# Altium integrated library Analog Devices Data Converters Digital-to-Analog Converters.IntLib: 2231 symbols (part 151 of 181)
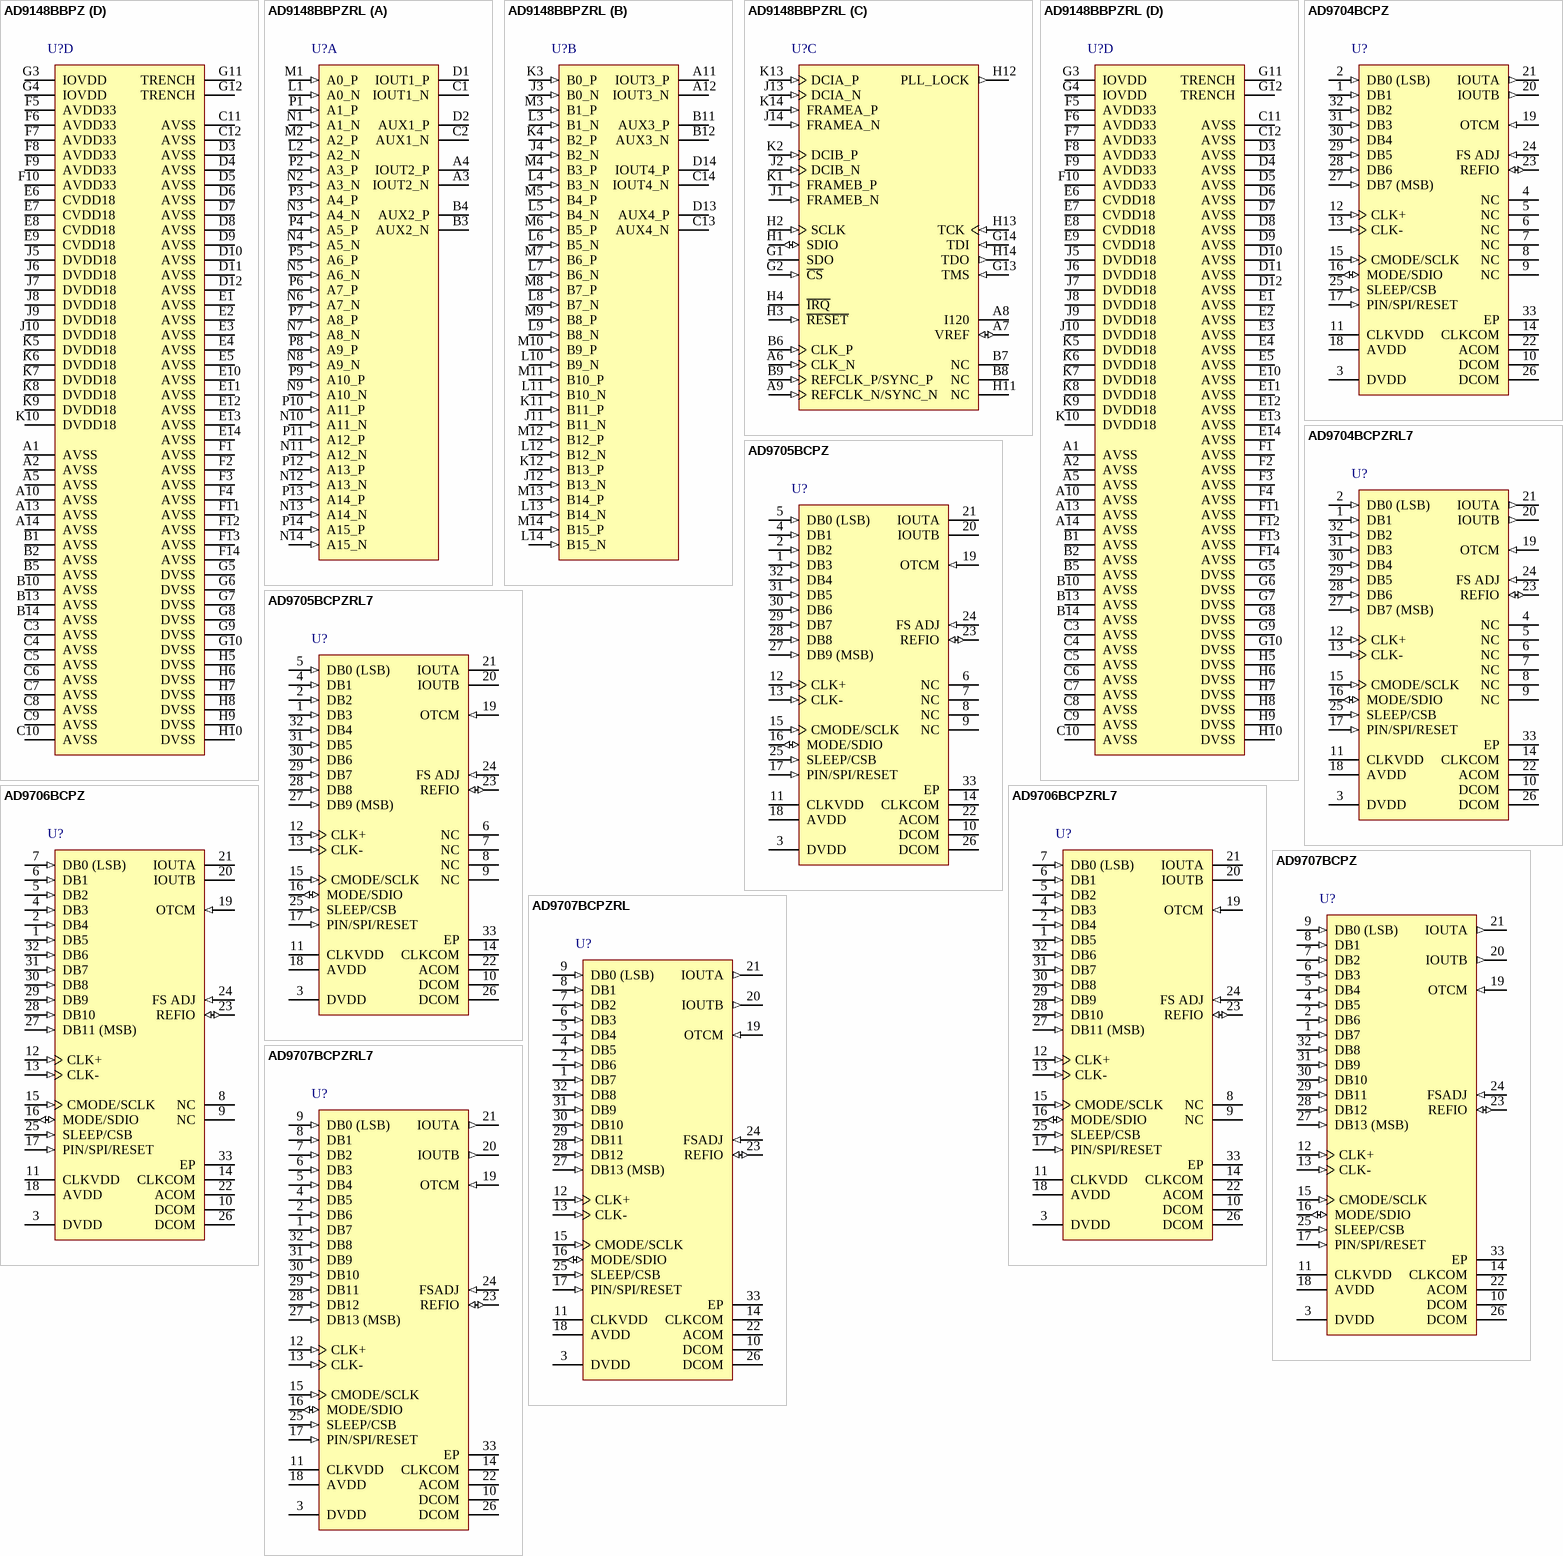
[diagram p264: symbols AD9148BBPZ to AD9707BCPZRL7]

## AD9148BBPZRL
designator U?
Quad 16-Bit 1 Gsps TxDAC+ Digital-to-Analog Converter, -40 to +85 degC, BP-196-1, Pb-Free, Reel; Generic Part Number: AD9148; Manufacturer: Analog Devices; PartNumber: AD9148BBPZRL; # DAC Outputs: 4; Max V+: 3.47V; Op Pwr Diss: 3W; Resolution (Bits): 16; Single Supply: No; DatasheetVersion: Rev.B; PackageVersion: 02-07-2012A; PackageReference: BP-196-1; PackageDescription: 196-Ball Ball Grid Array, Thermally Enhanced [BGA_ED]; Supplier 1: Digi-Key; Supplier Part Number 1: AD9148BBPZRL-ND; Supplier 2: Mouser; Supplier Part Number 2: 584-AD9148BBPZR; Packing: Reel; RoHS: Y; Mounting Technology: Surface Mount; Code_JEDEC: MO-192; ComponentLink1Description: Manufacturer URL; ComponentLink1URL: http://www.analog.com/en/index.html; ComponentLink2Description: Datasheet; ComponentLink2URL: http://www.analog.com/static/imported-files/data_sheets/AD9148.pdf; ComponentLink3Description: Product URL; ComponentLink3URL: http://www.analog.com/en/digital-to-analog-converters/da-converters/ad9148/products/product.html
footprint BP-196-1 (BGA, 196-Leads, Body 12x12mm, Pitch 0.8mm)
part A pins: A3 IOUT2_N (hiz) "DAC 2 Complementary Output Current.", A4 IOUT2_P (hiz) "DAC 2 Positive Output Current.", B3 AUX2_N (hiz) "Auxiliary DAC 2 Complementary Output Current.", B4 AUX2_P (hiz) "Auxiliary DAC 2 Positive Output Current.", C1 IOUT1_N (hiz) "DAC 1 Complementary Output Current.", C2 AUX1_N (hiz) "Auxiliary DAC 1 Complementary Output Current.", D1 IOUT1_P (hiz) "DAC 1 Positive Output Current.", D2 AUX1_P (hiz) "Auxiliary DAC 1 Positive Output Current.", L1 A0_N (in) "LVDS Data Input Pair, Port A (LSB).", L2 A2_N (in) "LVDS Data Input Pair, Port A.", M1 A0_P (in) "LVDS Data Input Pair, Port A (LSB).", M2 A2_P (in) "LVDS Data Input Pair, Port A.", N1 A1_N (in) "LVDS Data Input Pair, Port A.", N2 A3_N (in) "LVDS Data Input Pair, Port A.", N3 A4_N (in) "LVDS Data Input Pair, Port A.", N4 A5_N (in) "LVDS Data Input Pair, Port A.", N5 A6_N (in) "LVDS Data Input Pair, Port A.", N6 A7_N (in) "LVDS Data Input Pair, Port A.", N7 A8_N (in) "LVDS Data Input Pair, Port A.", N8 A9_N (in) "LVDS Data Input Pair, Port A.", N9 A10_N (in) "LVDS Data Input Pair, Port A.", N10 A11_N (in) "LVDS Data Input Pair, Port A.", N11 A12_N (in) "LVDS Data Input Pair, Port A.", N12 A13_N (in) "LVDS Data Input Pair, Port A.", N13 A14_N (in) "LVDS Data Input Pair, Port A.", N14 A15_N (in) "LVDS Data Input Pair, Port A (MSB).", P1 A1_P (in) "LVDS Data Input Pair, Port A.", P2 A3_P (in) "LVDS Data Input Pair, Port A.", P3 A4_P (in) "LVDS Data Input Pair, Port A.", P4 A5_P (in) "LVDS Data Input Pair, Port A.", P5 A6_P (in) "LVDS Data Input Pair, Port A.", P6 A7_P (in) "LVDS Data Input Pair, Port A.", P7 A8_P (in) "LVDS Data Input Pair, Port A.", P8 A9_P (in) "LVDS Data Input Pair, Port A.", P9 A10_P (in) "LVDS Data Input Pair, Port A.", P10 A11_P (in) "LVDS Data Input Pair, Port A.", P11 A12_P (in) "LVDS Data Input Pair, Port A.", P12 A13_P (in) "LVDS Data Input Pair, Port A.", P13 A14_P (in) "LVDS Data Input Pair, Port A.", P14 A15_P (in) "LVDS Data Input Pair, Port A (MSB)."
part B pins: A11 IOUT3_P (hiz) "DAC 3 Positive Output Current.", A12 IOUT3_N (hiz) "DAC 3 Complementary Output Current.", B11 AUX3_P (hiz) "Auxiliary DAC 3 Positive Output Current.", B12 AUX3_N (hiz) "Auxiliary DAC 3 Complementary Output Current.", C13 AUX4_N (hiz) "Auxiliary DAC 4 Complementary Output Current.", C14 IOUT4_N (hiz) "DAC 4 Complementary Output Current.", D13 AUX4_P (hiz) "Auxiliary DAC 4 Positive Output Current.", D14 IOUT4_P (hiz) "DAC 4 Positive Output Current.", J3 B0_N (in) "LVDS Data Input Pair, Port B (LSB).", J4 B2_N (in) "LVDS Data Input Pair, Port B.", J11 B11_N (in) "LVDS Data Input Pair, Port B.", J12 B13_N (in) "LVDS Data Input Pair, Port B.", K3 B0_P (in) "LVDS Data Input Pair, Port B (LSB).", K4 B2_P (in) "LVDS Data Input Pair, Port B.", K11 B11_P (in) "LVDS Data Input Pair, Port B.", K12 B13_P (in) "LVDS Data Input Pair, Port B.", L3 B1_N (in) "LVDS Data Input Pair, Port B.", L4 B3_N (in) "LVDS Data Input Pair, Port B.", L5 B4_N (in) "LVDS Data Input Pair, Port B.", L6 B5_N (in) "LVDS Data Input Pair, Port B.", L7 B6_N (in) "LVDS Data Input Pair, Port B.", L8 B7_N (in) "LVDS Data Input Pair, Port B.", L9 B8_N (in) "LVDS Data Input Pair, Port B.", L10 B9_N (in) "LVDS Data Input Pair, Port B.", L11 B10_N (in) "LVDS Data Input Pair, Port B.", L12 B12_N (in) "LVDS Data Input Pair, Port B.", L13 B14_N (in) "LVDS Data Input Pair, Port B.", L14 B15_N (in) "LVDS Data Input Pair, Port B (MSB).", M3 B1_P (in) "LVDS Data Input Pair, Port B.", M4 B3_P (in) "LVDS Data Input Pair, Port B.", M5 B4_P (in) "LVDS Data Input Pair, Port B.", M6 B5_P (in) "LVDS Data Input Pair, Port B.", M7 B6_P (in) "LVDS Data Input Pair, Port B.", M8 B7_P (in) "LVDS Data Input Pair, Port B.", M9 B8_P (in) "LVDS Data Input Pair, Port B.", M10 B9_P (in) "LVDS Data Input Pair, Port B.", M11 B10_P (in) "LVDS Data Input Pair, Port B.", M12 B12_P (in) "LVDS Data Input Pair, Port B.", M13 B14_P (in) "LVDS Data Input Pair, Port B.", M14 B15_P (in) "LVDS Data Input Pair, Port B (MSB)."
part C pins: A6 CLK_N (in) "Negative DAC Clock Input (CLK).", A7 VREF (io) "Band Gap Voltage Reference I/O. Decouple to analog ground via a 0.1 uF capacitor. Output impedance is approximately 5 kohm.", A8 I120 "Tie to analog ground via a 10 kohm resistor to generate a 120 uA reference current.", A9 REFCLK_N/SYNC_N (in) "PLL Reference Clock Input (REFCLK_N). This pin has a secondary function as a synchronization input (SYNC_N).", B6 CLK_P (in) "Positive DAC Clock Input (CLK).", B7 NC "No Connect. Do not connect to this pin.", B8 NC "No Connect. Do not connect to this pin.", B9 REFCLK_P/SYNC_P (in) "PLL Reference Clock Input (REFCLK_P). This pin has a secondary function as a synchronization input (SYNC_P).", G1 SDO (hiz) "Serial Data Output for SPI.", G2 ~{CS} (in) "Active Low Chip Select for SPI.", G13 TMS (in) "Reserved for Future Use. Connect to DVSS.", G14 TDI (in) "Reserved for Future Use. Connect to DVSS.", H1 SDIO (io) "Serial Data Input/Output for SPI.", H2 SCLK (in) "Qualifying Clock Input for SPI.", H3 ~{RESET} (in) "An active low LVCMOS input resets the device. Pull up to IOVDD.", H4 ~{IRQ} (oc) "Active Low Open-Drain Interrupt Request Output. Pull up to IOVDD with a 10 kohm resistor.", H11 NC "No Connect. Do not connect to this pin.", H12 PLL_LOCK (out) "Active High LVCMOS Output. It indicates the lock status of the PLL circuitry.", H13 TCK (in) "Reserved for Future Use. Connect to DVSS.", H14 TDO (out) "Reserved for Future Use. Leave unconnected.", J1 FRAMEB_N (in) "LVDS Frame Input for Port B. Tie to LVDS logic low if not used. Recommended external bias circuit is shown in Figure 49.", J2 DCIB_N (in) "LVDS Data Clock Input Pair for Port B.", J13 DCIA_N (in) "LVDS Data Clock Input Pair for Port A.", J14 FRAMEA_N (in) "LVDS Frame Input for Port A. Tie to LVDS logic low if not used. Recommended external bias circuit is shown in Figure 49.", K1 FRAMEB_P (in) "LVDS Frame Input for Port B. Tie to LVDS logic low if not used. Recommended external bias circuit is shown in Figure 49.", K2 DCIB_P (in) "LVDS Data Clock Input Pair for Port B.", K13 DCIA_P (in) "LVDS Data Clock Input Pair for Port A.", K14 FRAMEA_P (in) "LVDS Frame Input for Port A. Tie to LVDS logic low if not used. Recommended external bias circuit is shown in Figure 49."
part D pins: A1 AVSS (power) "Analog Supply Ground.", A2 AVSS (power) "Analog Supply Ground.", A5 AVSS (power) "Analog Supply Ground.", A10 AVSS (power) "Analog Supply Ground.", A13 AVSS (power) "Analog Supply Ground.", A14 AVSS (power) "Analog Supply Ground.", B1 AVSS (power) "Analog Supply Ground.", B2 AVSS (power) "Analog Supply Ground.", B5 AVSS (power) "Analog Supply Ground.", B10 AVSS (power) "Analog Supply Ground.", B13 AVSS (power) "Analog Supply Ground.", B14 AVSS (power) "Analog Supply Ground.", C3 AVSS (power) "Analog Supply Ground.", C4 AVSS (power) "Analog Supply Ground.", C5 AVSS (power) "Analog Supply Ground.", C6 AVSS (power) "Analog Supply Ground.", C7 AVSS (power) "Analog Supply Ground.", C8 AVSS (power) "Analog Supply Ground.", C9 AVSS (power) "Analog Supply Ground.", C10 AVSS (power) "Analog Supply Ground.", C11 AVSS (power) "Analog Supply Ground.", C12 AVSS (power) "Analog Supply Ground.", D3 AVSS (power) "Analog Supply Ground.", D4 AVSS (power) "Analog Supply Ground.", D5 AVSS (power) "Analog Supply Ground.", D6 AVSS (power) "Analog Supply Ground.", D7 AVSS (power) "Analog Supply Ground.", D8 AVSS (power) "Analog Supply Ground.", D9 AVSS (power) "Analog Supply Ground.", D10 AVSS (power) "Analog Supply Ground.", D11 AVSS (power) "Analog Supply Ground.", D12 AVSS (power) "Analog Supply Ground.", E1 AVSS (power) "Analog Supply Ground.", E2 AVSS (power) "Analog Supply Ground.", E3 AVSS (power) "Analog Supply Ground.", E4 AVSS (power) "Analog Supply Ground.", E5 AVSS (power) "Analog Supply Ground.", E6 CVDD18 (power) "1.8 V Clock Supply.", E7 CVDD18 (power) "1.8 V Clock Supply.", E8 CVDD18 (power) "1.8 V Clock Supply.", E9 CVDD18 (power) "1.8 V Clock Supply.", E10 AVSS (power) "Analog Supply Ground.", E11 AVSS (power) "Analog Supply Ground.", E12 AVSS (power) "Analog Supply Ground.", E13 AVSS (power) "Analog Supply Ground.", E14 AVSS (power) "Analog Supply Ground.", F1 AVSS (power) "Analog Supply Ground.", F2 AVSS (power) "Analog Supply Ground.", F3 AVSS (power) "Analog Supply Ground.", F4 AVSS (power) "Analog Supply Ground.", F5 AVDD33 (power) "3.3 V Analog Supply.", F6 AVDD33 (power) "3.3 V Analog Supply.", F7 AVDD33 (power) "3.3 V Analog Supply.", F8 AVDD33 (power) "3.3 V Analog Supply.", F9 AVDD33 (power) "3.3 V Analog Supply.", F10 AVDD33 (power) "3.3 V Analog Supply.", F11 AVSS (power) "Analog Supply Ground.", F12 AVSS (power) "Analog Supply Ground.", F13 AVSS (power) "Analog Supply Ground.", F14 AVSS (power) "Analog Supply Ground.", G3 IOVDD (power) "Supply for Serial Ports (SPI and TAP), R\E\S\E\T\ and I\R\Q\. 1.8 V to 3.3 V can be supplied to these pins.", G4 IOVDD (power) "Supply for Serial Ports (SPI and TAP), R\E\S\E\T\ and I\R\Q\. 1.8 V to 3.3 V can be supplied to these pins.", G5 DVSS (power) "Digital Supply Ground.", G6 DVSS (power) "Digital Supply Ground.", G7 DVSS (power) "Digital Supply Ground.", G8 DVSS (power) "Digital Supply Ground.", G9 DVSS (power) "Digital Supply Ground.", G10 DVSS (power) "Digital Supply Ground.", G11 TRENCH (power) "Connect this pin to VSS.", G12 TRENCH (power) "Connect this pin to VSS.", H5 DVSS (power) "Digital Supply Ground.", H6 DVSS (power) "Digital Supply Ground.", H7 DVSS (power) "Digital Supply Ground.", H8 DVSS (power) "Digital Supply Ground.", H9 DVSS (power) "Digital Supply Ground.", H10 DVSS (power) "Digital Supply Ground.", J5 DVDD18 (power) "1.8 V Digital Supply.", J6 DVDD18 (power) "1.8 V Digital Supply.", J7 DVDD18 (power) "1.8 V Digital Supply.", J8 DVDD18 (power) "1.8 V Digital Supply.", J9 DVDD18 (power) "1.8 V Digital Supply.", J10 DVDD18 (power) "1.8 V Digital Supply.", K5 DVDD18 (power) "1.8 V Digital Supply.", K6 DVDD18 (power) "1.8 V Digital Supply.", K7 DVDD18 (power) "1.8 V Digital Supply.", K8 DVDD18 (power) "1.8 V Digital Supply.", K9 DVDD18 (power) "1.8 V Digital Supply.", K10 DVDD18 (power) "1.8 V Digital Supply."

## AD9704BCPZ
designator U?
Single 8-Bit TxDAC, -40 to +85 degC, CP-32-2, Pb-Free, Tray; Generic Part Number: AD9704; Manufacturer: Analog Devices; PartNumber: AD9704BCPZ; # DAC Outputs: 1; Max V+: 3.6V; Op Pwr Diss: 57mW; Resolution (Bits): 8; Settling Time: 11ns; Single Supply: Yes; DatasheetVersion: Rev.B; PackageVersion: Jan-2005; PackageReference: CP-32-2; PackageDescription: 32-Lead Lead Frame Chip Scale Package [LFCSP_VQ] 5 x 5 mm Body, Very Thin Quad; Supplier 1: Digi-Key; Supplier Part Number 1: AD9704BCPZ-ND; Supplier 2: Farnell; Supplier Part Number 2: 1306147; Supplier 3: Newark; Supplier Part Number 3: 28M4190; Supplier 4: Mouser; Supplier Part Number 4: 584-AD9704BCPZ; Packing: Tray; RoHS: Y; Mounting Technology: Surface Mount; Code_JEDEC: MO-220-VHHD-2; ComponentLink1Description: Manufacturer URL; ComponentLink1URL: http://www.analog.com/en/index.html; ComponentLink2Description: Datasheet; ComponentLink2URL: http://www.analog.com/static/imported-files/data_sheets/AD9704_9705_9706_9707.pdf; ComponentLink3Description: Package Specification; ComponentLink3URL: http://www.analog.com/static/imported-files/packages/414143737956480539664569CP_32_2.pdf; ComponentLink4Description: Product URL; ComponentLink4URL: http://www.analog.com/en/digital-to-analog-converters/da-converters/ad9704/products/product.html
footprint CP-32-2_N (QFN, 32-Leads, Body 5x5mm, Pitch 0.5mm, Thermal Pad 3.1x3.1mm, IPC Medium Density)
footprint CP-32-2_L (QFN, 32-Leads, Body 5x5mm, Pitch 0.5mm, Thermal Pad 3.1x3.1mm, IPC High Density)
footprint CP-32-2_M (QFN, 32-Leads, Body 5x5mm, Pitch 0.5mm, Thermal Pad 3.1x3.1mm, IPC Low Density)
pins: 1 DB1 (in) "Data Bit 1.", 2 DB0 (LSB) (in) "Least Significant Data Bit (LSB).", 3 DVDD (power) "Digital Supply Voltage (1.7 V to 3.6 V).", 4 NC "No Connect.", 5 NC "No Connect.", 6 NC "No Connect.", 7 NC "No Connect.", 8 NC "No Connect.", 9 NC "No Connect.", 10 DCOM (power) "Digital Common.", 11 CLKVDD (power) "Clock Supply Voltage (1.7 V to 3.6 V).", 12 CLK+ (in) "Positive Differential Clock Input.", 13 CLK- (in) "Negative Differential Clock Input.", 14 CLKCOM (power) "Clock Common.", 15 CMODE/SCLK (in) "In pin mode, this pin selects the clock input type. Connect to CLKCOM for single-ended clock receiver (drive CLK+ and float CLK-). Connect to CLKVDD for differential receiver. In SPI mode, this pin is the serial data clock (See Datasheet)", 16 MODE/SDIO (io) "In pin mode, this pin selects the input data format. Connect to DCOM for straight binary, and DVDD for twos complement. In SPI mode, this pin acts as SPI data input/output.", 17 PIN/SPI/RESET (in) "Selects SPI Mode or Pin Mode Operation. Active high for pin mode operation and active low for SPI mode operation. Pulse high to reset SPI registers to default values.", 18 AVDD (power) "Analog Supply Voltage (1.7 V to 3.6 V).", 19 OTCM (in) "Adjustable Output Common Mode. Refer to the Theory of Operation section for details.", 20 IOUTB (out) "Complementary DAC Current Output. Full-scale current is sourced when all data bits are 0s.", 21 IOUTA (out) "DAC Current Output. Full-scale current is sourced when all data bits are 1s.", 22 ACOM (power) "Analog Common.", 23 REFIO (io) "Reference Input/Output. Serves as reference input when internal reference disabled. Serves as 1.0 V reference output when internal reference is activated. Requires a 0.1 uF capacitor to ACOM when internal reference is (See Datasheet)", 24 FS ADJ (in) "Full-Scale Current Output Adjust.", 25 SLEEP/CSB (in) "In pin mode, active high powers down chip. In SPI mode, this pin is the serial port chip select (active low).", 26 DCOM (power) "Digital Common.", 27 DB7 (MSB) (in) "Most Significant Data Bit (MSB).", 28 DB6 (in) "Data Bit 6.", 29 DB5 (in) "Data Bit 5.", 30 DB4 (in) "Data Bit 4.", 31 DB3 (in) "Data Bit 3.", 32 DB2 (in) "Data Bit 2.", 33 EP (power) "It is recommended that the exposed pad be thermally connected to a copper ground plane for enhanced electrical and thermal performance."

## AD9704BCPZRL7
designator U?
Single 8-Bit TxDAC, -40 to +85 degC, CP-32-2, Pb-Free, Reel; Generic Part Number: AD9704; Manufacturer: Analog Devices; PartNumber: AD9704BCPZRL7; # DAC Outputs: 1; Max V+: 3.6V; Op Pwr Diss: 57mW; Resolution (Bits): 8; Settling Time: 11ns; Single Supply: Yes; DatasheetVersion: Rev.B; PackageVersion: Jan-2005; PackageReference: CP-32-2; PackageDescription: 32-Lead Lead Frame Chip Scale Package [LFCSP_VQ] 5 x 5 mm Body, Very Thin Quad; Supplier 1: Digi-Key; Supplier Part Number 1: AD9704BCPZRL7-ND; Supplier 2: Mouser; Supplier Part Number 2: 584-AD9704BCPZR7; Packing: Reel; RoHS: Y; Mounting Technology: Surface Mount; Code_JEDEC: MO-220-VHHD-2; ComponentLink1Description: Manufacturer URL; ComponentLink1URL: http://www.analog.com/en/index.html; ComponentLink2Description: Datasheet; ComponentLink2URL: http://www.analog.com/static/imported-files/data_sheets/AD9704_9705_9706_9707.pdf; ComponentLink3Description: Package Specification; ComponentLink3URL: http://www.analog.com/static/imported-files/packages/414143737956480539664569CP_32_2.pdf; ComponentLink4Description: Product URL; ComponentLink4URL: http://www.analog.com/en/digital-to-analog-converters/da-converters/ad9704/products/product.html
footprint CP-32-2_N (QFN, 32-Leads, Body 5x5mm, Pitch 0.5mm, Thermal Pad 3.1x3.1mm, IPC Medium Density)
footprint CP-32-2_L (QFN, 32-Leads, Body 5x5mm, Pitch 0.5mm, Thermal Pad 3.1x3.1mm, IPC High Density)
footprint CP-32-2_M (QFN, 32-Leads, Body 5x5mm, Pitch 0.5mm, Thermal Pad 3.1x3.1mm, IPC Low Density)
pins: 1 DB1 (in) "Data Bit 1.", 2 DB0 (LSB) (in) "Least Significant Data Bit (LSB).", 3 DVDD (power) "Digital Supply Voltage (1.7 V to 3.6 V).", 4 NC "No Connect.", 5 NC "No Connect.", 6 NC "No Connect.", 7 NC "No Connect.", 8 NC "No Connect.", 9 NC "No Connect.", 10 DCOM (power) "Digital Common.", 11 CLKVDD (power) "Clock Supply Voltage (1.7 V to 3.6 V).", 12 CLK+ (in) "Positive Differential Clock Input.", 13 CLK- (in) "Negative Differential Clock Input.", 14 CLKCOM (power) "Clock Common.", 15 CMODE/SCLK (in) "In pin mode, this pin selects the clock input type. Connect to CLKCOM for single-ended clock receiver (drive CLK+ and float CLK-). Connect to CLKVDD for differential receiver. In SPI mode, this pin is the serial data clock (See Datasheet)", 16 MODE/SDIO (io) "In pin mode, this pin selects the input data format. Connect to DCOM for straight binary, and DVDD for twos complement. In SPI mode, this pin acts as SPI data input/output.", 17 PIN/SPI/RESET (in) "Selects SPI Mode or Pin Mode Operation. Active high for pin mode operation and active low for SPI mode operation. Pulse high to reset SPI registers to default values.", 18 AVDD (power) "Analog Supply Voltage (1.7 V to 3.6 V).", 19 OTCM (in) "Adjustable Output Common Mode. Refer to the Theory of Operation section for details.", 20 IOUTB (out) "Complementary DAC Current Output. Full-scale current is sourced when all data bits are 0s.", 21 IOUTA (out) "DAC Current Output. Full-scale current is sourced when all data bits are 1s.", 22 ACOM (power) "Analog Common.", 23 REFIO (io) "Reference Input/Output. Serves as reference input when internal reference disabled. Serves as 1.0 V reference output when internal reference is activated. Requires a 0.1 uF capacitor to ACOM when internal reference is (See Datasheet)", 24 FS ADJ (in) "Full-Scale Current Output Adjust.", 25 SLEEP/CSB (in) "In pin mode, active high powers down chip. In SPI mode, this pin is the serial port chip select (active low).", 26 DCOM (power) "Digital Common.", 27 DB7 (MSB) (in) "Most Significant Data Bit (MSB).", 28 DB6 (in) "Data Bit 6.", 29 DB5 (in) "Data Bit 5.", 30 DB4 (in) "Data Bit 4.", 31 DB3 (in) "Data Bit 3.", 32 DB2 (in) "Data Bit 2.", 33 EP (power) "It is recommended that the exposed pad be thermally connected to a copper ground plane for enhanced electrical and thermal performance."

## AD9705BCPZ
designator U?
Single 10-Bit TxDAC, -40 to +85 degC, CP-32-2, Pb-Free, Tray; Generic Part Number: AD9705; Manufacturer: Analog Devices; PartNumber: AD9705BCPZ; # DAC Outputs: 1; Max V+: 3.6V; Op Pwr Diss: 57mW; Resolution (Bits): 10; Settling Time: 11ns; Single Supply: Yes; DatasheetVersion: Rev.B; PackageVersion: Jan-2005; PackageReference: CP-32-2; PackageDescription: 32-Lead Lead Frame Chip Scale Package [LFCSP_VQ] 5 x 5 mm Body, Very Thin Quad; Supplier 1: Digi-Key; Supplier Part Number 1: AD9705BCPZ-ND; Supplier 2: Farnell; Supplier Part Number 2: 1306148; Supplier 3: Newark; Supplier Part Number 3: 28M4193; Supplier 4: Mouser; Supplier Part Number 4: 584-AD9705BCPZ; Packing: Tray; RoHS: Y; Mounting Technology: Surface Mount; Code_JEDEC: MO-220-VHHD-2; ComponentLink1Description: Manufacturer URL; ComponentLink1URL: http://www.analog.com/en/index.html; ComponentLink2Description: Datasheet; ComponentLink2URL: http://www.analog.com/static/imported-files/data_sheets/AD9704_9705_9706_9707.pdf; ComponentLink3Description: Package Specification; ComponentLink3URL: http://www.analog.com/static/imported-files/packages/414143737956480539664569CP_32_2.pdf; ComponentLink4Description: Product URL; ComponentLink4URL: http://www.analog.com/en/digital-to-analog-converters/da-converters/ad9705/products/product.html
footprint CP-32-2_N (QFN, 32-Leads, Body 5x5mm, Pitch 0.5mm, Thermal Pad 3.1x3.1mm, IPC Medium Density)
footprint CP-32-2_L (QFN, 32-Leads, Body 5x5mm, Pitch 0.5mm, Thermal Pad 3.1x3.1mm, IPC High Density)
footprint CP-32-2_M (QFN, 32-Leads, Body 5x5mm, Pitch 0.5mm, Thermal Pad 3.1x3.1mm, IPC Low Density)
pins: 1 DB3 (in) "Data Bit 3.", 2 DB2 (in) "Data Bit 2.", 3 DVDD (power) "Digital Supply Voltage (1.7 V to 3.6 V).", 4 DB1 (in) "Data Bit 1.", 5 DB0 (LSB) (in) "Least Significant Data Bit (LSB).", 6 NC "No Connect.", 7 NC "No Connect.", 8 NC "No Connect.", 9 NC "No Connect.", 10 DCOM (power) "Digital Common.", 11 CLKVDD (power) "Clock Supply Voltage (1.7 V to 3.6 V).", 12 CLK+ (in) "Positive Differential Clock Input.", 13 CLK- (in) "Negative Differential Clock Input.", 14 CLKCOM (power) "Clock Common.", 15 CMODE/SCLK (in) "In pin mode, this pin selects the clock input type. Connect to CLKCOM for single-ended clock receiver (drive CLK+ and float CLK-). Connect to CLKVDD for differential receiver. In SPI mode, this pin is the serial data clock (See Datasheet)", 16 MODE/SDIO (io) "In pin mode, this pin selects the input data format. Connect to DCOM for straight binary, and DVDD for twos complement. In SPI mode, this pin acts as SPI data input/output.", 17 PIN/SPI/RESET (in) "Selects SPI Mode or Pin Mode Operation. Active high for pin mode operation and active low for SPI mode operation. Pulse high to reset SPI registers to default values.", 18 AVDD (power) "Analog Supply Voltage (1.7 V to 3.6 V).", 19 OTCM (in) "Adjustable Output Common Mode. Refer to the Theory of Operation section for details.", 20 IOUTB (hiz) "Complementary DAC Current Output. Full-scale current is sourced when all data bits are 0s.", 21 IOUTA (hiz) "DAC Current Output. Full-scale current is sourced when all data bits are 1s.", 22 ACOM (power) "Analog Common.", 23 REFIO (io) "Reference Input/Output. Serves as reference input when internal reference disabled. Serves as 1.0 V reference output when internal reference is activated. Requires a 0.1 uF capacitor to ACOM when internal reference is (See Datasheet)", 24 FS ADJ (in) "Full-Scale Current Output Adjust.", 25 SLEEP/CSB (in) "In pin mode, active high powers down chip. In SPI mode, this pin is the serial port chip select (active low).", 26 DCOM (power) "Digital Common.", 27 DB9 (MSB) (in) "Most Significant Data Bit (MSB).", 28 DB8 (in) "Data Bit 8.", 29 DB7 (in) "Data Bit 7.", 30 DB6 (in) "Data Bit 6.", 31 DB5 (in) "Data Bit 5.", 32 DB4 (in) "Data Bit 4.", 33 EP (power) "It is recommended that the exposed pad be thermally connected to a copper ground plane for enhanced electrical and thermal performance."

## AD9705BCPZRL7
designator U?
Single 10-Bit TxDAC, -40 to +85 degC, CP-32-2, Pb-Free, Reel; Generic Part Number: AD9705; Manufacturer: Analog Devices; PartNumber: AD9705BCPZRL7; # DAC Outputs: 1; Max V+: 3.6V; Op Pwr Diss: 57mW; Resolution (Bits): 10; Settling Time: 11ns; Single Supply: Yes; DatasheetVersion: Rev.B; PackageVersion: Jan-2005; PackageReference: CP-32-2; PackageDescription: 32-Lead Lead Frame Chip Scale Package [LFCSP_VQ] 5 x 5 mm Body, Very Thin Quad; Supplier 1: Digi-Key; Supplier Part Number 1: AD9705BCPZRL7-ND; Supplier 2: Mouser; Supplier Part Number 2: 584-AD9705BCPZR7; Packing: Reel; RoHS: Y; Mounting Technology: Surface Mount; Code_JEDEC: MO-220-VHHD-2; ComponentLink1Description: Manufacturer URL; ComponentLink1URL: http://www.analog.com/en/index.html; ComponentLink2Description: Datasheet; ComponentLink2URL: http://www.analog.com/static/imported-files/data_sheets/AD9704_9705_9706_9707.pdf; ComponentLink3Description: Package Specification; ComponentLink3URL: http://www.analog.com/static/imported-files/packages/414143737956480539664569CP_32_2.pdf; ComponentLink4Description: Product URL; ComponentLink4URL: http://www.analog.com/en/digital-to-analog-converters/da-converters/ad9705/products/product.html
footprint CP-32-2_N (QFN, 32-Leads, Body 5x5mm, Pitch 0.5mm, Thermal Pad 3.1x3.1mm, IPC Medium Density)
footprint CP-32-2_L (QFN, 32-Leads, Body 5x5mm, Pitch 0.5mm, Thermal Pad 3.1x3.1mm, IPC High Density)
footprint CP-32-2_M (QFN, 32-Leads, Body 5x5mm, Pitch 0.5mm, Thermal Pad 3.1x3.1mm, IPC Low Density)
pins: 1 DB3 (in) "Data Bit 3.", 2 DB2 (in) "Data Bit 2.", 3 DVDD (power) "Digital Supply Voltage (1.7 V to 3.6 V).", 4 DB1 (in) "Data Bit 1.", 5 DB0 (LSB) (in) "Least Significant Data Bit (LSB).", 6 NC "No Connect.", 7 NC "No Connect.", 8 NC "No Connect.", 9 NC "No Connect.", 10 DCOM (power) "Digital Common.", 11 CLKVDD (power) "Clock Supply Voltage (1.7 V to 3.6 V).", 12 CLK+ (in) "Positive Differential Clock Input.", 13 CLK- (in) "Negative Differential Clock Input.", 14 CLKCOM (power) "Clock Common.", 15 CMODE/SCLK (in) "In pin mode, this pin selects the clock input type. Connect to CLKCOM for single-ended clock receiver (drive CLK+ and float CLK-). Connect to CLKVDD for differential receiver. In SPI mode, this pin is the serial data clock (See Datasheet)", 16 MODE/SDIO (io) "In pin mode, this pin selects the input data format. Connect to DCOM for straight binary, and DVDD for twos complement. In SPI mode, this pin acts as SPI data input/output.", 17 PIN/SPI/RESET (in) "Selects SPI Mode or Pin Mode Operation. Active high for pin mode operation and active low for SPI mode operation. Pulse high to reset SPI registers to default values.", 18 AVDD (power) "Analog Supply Voltage (1.7 V to 3.6 V).", 19 OTCM (in) "Adjustable Output Common Mode. Refer to the Theory of Operation section for details.", 20 IOUTB (hiz) "Complementary DAC Current Output. Full-scale current is sourced when all data bits are 0s.", 21 IOUTA (hiz) "DAC Current Output. Full-scale current is sourced when all data bits are 1s.", 22 ACOM (power) "Analog Common.", 23 REFIO (io) "Reference Input/Output. Serves as reference input when internal reference disabled. Serves as 1.0 V reference output when internal reference is activated. Requires a 0.1 uF capacitor to ACOM when internal reference is (See Datasheet)", 24 FS ADJ (in) "Full-Scale Current Output Adjust.", 25 SLEEP/CSB (in) "In pin mode, active high powers down chip. In SPI mode, this pin is the serial port chip select (active low).", 26 DCOM (power) "Digital Common.", 27 DB9 (MSB) (in) "Most Significant Data Bit (MSB).", 28 DB8 (in) "Data Bit 8.", 29 DB7 (in) "Data Bit 7.", 30 DB6 (in) "Data Bit 6.", 31 DB5 (in) "Data Bit 5.", 32 DB4 (in) "Data Bit 4.", 33 EP (power) "It is recommended that the exposed pad be thermally connected to a copper ground plane for enhanced electrical and thermal performance."

## AD9706BCPZ
designator U?
Single 12-Bit TxDAC, -40 to +85 degC, CP-32-2, Pb-Free, Tray; Generic Part Number: AD9706; Manufacturer: Analog Devices; PartNumber: AD9706BCPZ; # DAC Outputs: 1; Max V+: 3.6V; Op Pwr Diss: 57mW; Resolution (Bits): 12; Settling Time: 11ns; Single Supply: Yes; DatasheetVersion: Rev.B; PackageVersion: Jan-2005; PackageReference: CP-32-2; PackageDescription: 32-Lead Lead Frame Chip Scale Package [LFCSP_VQ] 5 x 5 mm Body, Very Thin Quad; Supplier 1: Digi-Key; Supplier Part Number 1: AD9706BCPZ-ND; Supplier 2: Newark; Supplier Part Number 2: 28M4196; Supplier 3: Mouser; Supplier Part Number 3: 584-AD9706BCPZ; Packing: Tray; RoHS: Y; Mounting Technology: Surface Mount; Code_JEDEC: MO-220-VHHD-2; ComponentLink1Description: Manufacturer URL; ComponentLink1URL: http://www.analog.com/en/index.html; ComponentLink2Description: Datasheet; ComponentLink2URL: http://www.analog.com/static/imported-files/data_sheets/AD9704_9705_9706_9707.pdf; ComponentLink3Description: Package Specification; ComponentLink3URL: http://www.analog.com/static/imported-files/packages/414143737956480539664569CP_32_2.pdf; ComponentLink4Description: Product URL; ComponentLink4URL: http://www.analog.com/en/digital-to-analog-converters/da-converters/ad9706/products/product.html
footprint CP-32-2_N (QFN, 32-Leads, Body 5x5mm, Pitch 0.5mm, Thermal Pad 3.1x3.1mm, IPC Medium Density)
footprint CP-32-2_L (QFN, 32-Leads, Body 5x5mm, Pitch 0.5mm, Thermal Pad 3.1x3.1mm, IPC High Density)
footprint CP-32-2_M (QFN, 32-Leads, Body 5x5mm, Pitch 0.5mm, Thermal Pad 3.1x3.1mm, IPC Low Density)
pins: 1 DB5 (in) "Data Bit 5.", 2 DB4 (in) "Data Bit 4.", 3 DVDD (power) "Digital Supply Voltage (1.7 V to 3.6 V).", 4 DB3 (in) "Data Bit 3.", 5 DB2 (in) "Data Bit 2.", 6 DB1 (in) "Data Bit 1.", 7 DB0 (LSB) (in) "Least Significant Data Bit (LSB).", 8 NC "No Connect.", 9 NC "No Connect.", 10 DCOM (power) "Digital Common.", 11 CLKVDD (power) "Clock Supply Voltage (1.7 V to 3.6 V).", 12 CLK+ (in) "Positive Differential Clock Input.", 13 CLK- (in) "Negative Differential Clock Input.", 14 CLKCOM (power) "Clock Common.", 15 CMODE/SCLK (in) "In pin mode, this pin selects the clock input type. Connect to CLKCOM for single-ended clock receiver (drive CLK+ and float CLK-). Connect to CLKVDD for differential receiver. In SPI mode, this pin is the serial data clock (See Datasheet)", 16 MODE/SDIO (io) "In pin mode, this pin selects the input data format. Connect to DCOM for straight binary, and DVDD for twos complement. In SPI mode, this pin acts as SPI data input/output.", 17 PIN/SPI/RESET (in) "Selects SPI Mode or Pin Mode Operation. Active high for pin mode operation, and active low for SPI mode operation. Pulse high to reset SPI registers to default values.", 18 AVDD (power) "Analog Supply Voltage (1.7 V to 3.6 V).", 19 OTCM (in) "Adjustable Output Common Mode. Refer to the Theory of Operation section for details.", 20 IOUTB (hiz) "Complementary DAC Current Output. Full-scale current is sourced when all data bits are 0s.", 21 IOUTA (hiz) "DAC Current Output. Full-scale current is sourced when all data bits are 1s.", 22 ACOM (power) "Analog Common.", 23 REFIO (io) "Reference Input/Output. Serves as reference input when internal reference disabled. Serves as 1.0 V reference output when internal reference is activated. Requires a 0.1 uF capacitor to ACOM when internal reference is (See Datasheet)", 24 FS ADJ (in) "Full-Scale Current Output Adjust.", 25 SLEEP/CSB (in) "In pin mode, active high powers down chip. In SPI mode, this pin is the serial port chip select (active low).", 26 DCOM (power) "Digital Common.", 27 DB11 (MSB) (in) "Most Significant Data Bit (MSB).", 28 DB10 (in) "Data Bit 10.", 29 DB9 (in) "Data Bit 9.", 30 DB8 (in) "Data Bit 8.", 31 DB7 (in) "Data Bit 7.", 32 DB6 (in) "Data Bit 6.", 33 EP (power) "It is recommended that the exposed pad be thermally connected to a copper ground plane for enhanced electrical and thermal performance."

## AD9706BCPZRL7
designator U?
Single 12-Bit TxDAC, -40 to +85 degC, CP-32-2, Pb-Free, Reel; Generic Part Number: AD9706; Manufacturer: Analog Devices; PartNumber: AD9706BCPZRL7; # DAC Outputs: 1; Max V+: 3.6V; Op Pwr Diss: 57mW; Resolution (Bits): 12; Settling Time: 11ns; Single Supply: Yes; DatasheetVersion: Rev.B; PackageVersion: Jan-2005; PackageReference: CP-32-2; PackageDescription: 32-Lead Lead Frame Chip Scale Package [LFCSP_VQ] 5 x 5 mm Body, Very Thin Quad; Supplier 1: Digi-Key; Supplier Part Number 1: AD9706BCPZRL7-ND; Supplier 2: Mouser; Supplier Part Number 2: 584-AD9706BCPZR7; Packing: Reel; RoHS: Y; Mounting Technology: Surface Mount; Code_JEDEC: MO-220-VHHD-2; ComponentLink1Description: Manufacturer URL; ComponentLink1URL: http://www.analog.com/en/index.html; ComponentLink2Description: Datasheet; ComponentLink2URL: http://www.analog.com/static/imported-files/data_sheets/AD9704_9705_9706_9707.pdf; ComponentLink3Description: Package Specification; ComponentLink3URL: http://www.analog.com/static/imported-files/packages/414143737956480539664569CP_32_2.pdf; ComponentLink4Description: Product URL; ComponentLink4URL: http://www.analog.com/en/digital-to-analog-converters/da-converters/ad9707/products/product.html
footprint CP-32-2_N (QFN, 32-Leads, Body 5x5mm, Pitch 0.5mm, Thermal Pad 3.1x3.1mm, IPC Medium Density)
footprint CP-32-2_L (QFN, 32-Leads, Body 5x5mm, Pitch 0.5mm, Thermal Pad 3.1x3.1mm, IPC High Density)
footprint CP-32-2_M (QFN, 32-Leads, Body 5x5mm, Pitch 0.5mm, Thermal Pad 3.1x3.1mm, IPC Low Density)
pins: 1 DB5 (in) "Data Bit 5.", 2 DB4 (in) "Data Bit 4.", 3 DVDD (power) "Digital Supply Voltage (1.7 V to 3.6 V).", 4 DB3 (in) "Data Bit 3.", 5 DB2 (in) "Data Bit 2.", 6 DB1 (in) "Data Bit 1.", 7 DB0 (LSB) (in) "Least Significant Data Bit (LSB).", 8 NC "No Connect.", 9 NC "No Connect.", 10 DCOM (power) "Digital Common.", 11 CLKVDD (power) "Clock Supply Voltage (1.7 V to 3.6 V).", 12 CLK+ (in) "Positive Differential Clock Input.", 13 CLK- (in) "Negative Differential Clock Input.", 14 CLKCOM (power) "Clock Common.", 15 CMODE/SCLK (in) "In pin mode, this pin selects the clock input type. Connect to CLKCOM for single-ended clock receiver (drive CLK+ and float CLK-). Connect to CLKVDD for differential receiver. In SPI mode, this pin is the serial data clock (See Datasheet)", 16 MODE/SDIO (io) "In pin mode, this pin selects the input data format. Connect to DCOM for straight binary, and DVDD for twos complement. In SPI mode, this pin acts as SPI data input/output.", 17 PIN/SPI/RESET (in) "Selects SPI Mode or Pin Mode Operation. Active high for pin mode operation, and active low for SPI mode operation. Pulse high to reset SPI registers to default values.", 18 AVDD (power) "Analog Supply Voltage (1.7 V to 3.6 V).", 19 OTCM (in) "Adjustable Output Common Mode. Refer to the Theory of Operation section for details.", 20 IOUTB (hiz) "Complementary DAC Current Output. Full-scale current is sourced when all data bits are 0s.", 21 IOUTA (hiz) "DAC Current Output. Full-scale current is sourced when all data bits are 1s.", 22 ACOM (power) "Analog Common.", 23 REFIO (io) "Reference Input/Output. Serves as reference input when internal reference disabled. Serves as 1.0 V reference output when internal reference is activated. Requires a 0.1 uF capacitor to ACOM when internal reference is (See Datasheet)", 24 FS ADJ (in) "Full-Scale Current Output Adjust.", 25 SLEEP/CSB (in) "In pin mode, active high powers down chip. In SPI mode, this pin is the serial port chip select (active low).", 26 DCOM (power) "Digital Common.", 27 DB11 (MSB) (in) "Most Significant Data Bit (MSB).", 28 DB10 (in) "Data Bit 10.", 29 DB9 (in) "Data Bit 9.", 30 DB8 (in) "Data Bit 8.", 31 DB7 (in) "Data Bit 7.", 32 DB6 (in) "Data Bit 6.", 33 EP (power) "It is recommended that the exposed pad be thermally connected to a copper ground plane for enhanced electrical and thermal performance."

## AD9707BCPZ
designator U?
Single 14-Bit TxDAC, -40 to +85 degC, CP-32-2, Pb-Free, Tray; Generic Part Number: AD9707; Manufacturer: Analog Devices; PartNumber: AD9707BCPZ; # DAC Outputs: 1; Max V+: 3.6V; Op Pwr Diss: 57mW; Resolution (Bits): 14; Settling Time: 11ns; Single Supply: Yes; DatasheetVersion: Rev.B; PackageVersion: Jan-2005; PackageReference: CP-32-2; PackageDescription: 32-Lead Lead Frame Chip Scale Package [LFCSP_VQ] 5 x 5 mm Body, Very Thin Quad; Supplier 1: Digi-Key; Supplier Part Number 1: AD9707BCPZ-ND; Supplier 2: Farnell; Supplier Part Number 2: 1438929; Supplier 3: Newark; Supplier Part Number 3: 25R4399; Supplier 4: Newark; Supplier Part Number 4: 28M4199; Supplier 5: Mouser; Supplier Part Number 5: 584-AD9707BCPZ; Packing: Tray; RoHS: Y; Mounting Technology: Surface Mount; Code_JEDEC: MO-220-VHHD-2; ComponentLink1Description: Manufacturer URL; ComponentLink1URL: http://www.analog.com/en/index.html; ComponentLink2Description: Datasheet; ComponentLink2URL: http://www.analog.com/static/imported-files/data_sheets/AD9704_9705_9706_9707.pdf; ComponentLink3Description: Package Specification; ComponentLink3URL: http://www.analog.com/static/imported-files/packages/414143737956480539664569CP_32_2.pdf; ComponentLink4Description: Product URL; ComponentLink4URL: http://www.analog.com/en/digital-to-analog-converters/da-converters/ad9707/products/product.html
footprint CP-32-2_N (QFN, 32-Leads, Body 5x5mm, Pitch 0.5mm, Thermal Pad 3.1x3.1mm, IPC Medium Density)
footprint CP-32-2_L (QFN, 32-Leads, Body 5x5mm, Pitch 0.5mm, Thermal Pad 3.1x3.1mm, IPC High Density)
footprint CP-32-2_M (QFN, 32-Leads, Body 5x5mm, Pitch 0.5mm, Thermal Pad 3.1x3.1mm, IPC Low Density)
pins: 1 DB7 (in) "Data Bit 7", 2 DB6 (in) "Data Bit 6", 3 DVDD (power) "Digital Supply Voltage (1.7 V to 3.6 V).", 4 DB5 (in) "Data Bit 5", 5 DB4 (in) "Data Bit 4", 6 DB3 (in) "Data Bit 3", 7 DB2 (in) "Data Bit 2", 8 DB1 (in) "Data Bit 1", 9 DB0 (LSB) (in) "Least Significant Data Bit (LSB).", 10 DCOM (power) "Digital Common.", 11 CLKVDD (power) "Clock Supply Voltage (1.7 V to 3.6 V).", 12 CLK+ (in) "Positive Differential Clock Input.", 13 CLK- (in) "Negative Differential Clock Input.", 14 CLKCOM (power) "Clock Common.", 15 CMODE/SCLK (in) "In pin mode, this pin selects the clock input type. Connect to CLKCOM for single-ended clock receiver (drive CLK+ and float CLK-). Connect to CLKVDD for differential receiver. In SPI mode, this pin is the serial data clock (See Datasheet)", 16 MODE/SDIO (io) "In pin mode, this pin selects the input data format. Connect to DCOM for straight binary, and DVDD for twos complement. In SPI mode, this pin acts as SPI data input/output.", 17 PIN/SPI/RESET (in) "Selects SPI Mode or Pin Mode Operation. Active high for pin mode operation and active low for SPI mode operation. Pulse high to reset SPI registers to default values.", 18 AVDD (power) "Analog Supply Voltage (1.7 V to 3.6 V).", 19 OTCM (in) "Adjustable Output Common Mode. Refer to the Theory of Operation section for details.", 20 IOUTB (out) "Complementary DAC Current Output. Full-scale current is sourced when all data bits are 0s.", 21 IOUTA (out) "DAC Current Output. Full-scale current is sourced when all data bits are 1s.", 22 ACOM (power) "Analog Common.", 23 REFIO (io) "Reference Input/Output. Serves as reference input when internal reference disabled. Serves as 1.0 V reference output when internal reference is activated. Requires a 0.1 uF capacitor to ACOM when internal reference is (See Datasheet)", 24 FSADJ (in) "Full-Scale Current Output Adjust.", 25 SLEEP/CSB (in) "In pin mode, active high powers down chip. In SPI mode, this pin is the serial port chip select (active low).", 26 DCOM (power) "Digital Common.", 27 DB13 (MSB) (in) "Most Significant Data Bit (MSB).", 28 DB12 (in) "Data Bit 12", 29 DB11 (in) "Data Bit 11", 30 DB10 (in) "Data Bit 10", 31 DB9 (in) "Data Bit 9", 32 DB8 (in) "Data Bit 8", 33 EP (power) "It is recommended that the exposed pad be thermally connected to a copper ground plane for enhanced electrical and thermal performance."

## AD9707BCPZRL
designator U?
Single 14-Bit TxDAC, -40 to +85 degC, CP-32-2, Pb-Free, Reel; Generic Part Number: AD9707; Manufacturer: Analog Devices; PartNumber: AD9707BCPZRL; # DAC Outputs: 1; Max V+: 3.6V; Op Pwr Diss: 57mW; Resolution (Bits): 14; Settling Time: 11ns; Single Supply: Yes; DatasheetVersion: Rev.B; PackageVersion: Jan-2005; PackageReference: CP-32-2; PackageDescription: 32-Lead Lead Frame Chip Scale Package [LFCSP_VQ] 5 x 5 mm Body, Very Thin Quad; Supplier 1: Mouser; Supplier Part Number 1: N/A; Packing: Reel; RoHS: Y; Mounting Technology: Surface Mount; Code_JEDEC: MO-220-VHHD-2; ComponentLink1Description: Manufacturer URL; ComponentLink1URL: http://www.analog.com/en/index.html; ComponentLink2Description: Datasheet; ComponentLink2URL: http://www.analog.com/static/imported-files/data_sheets/AD9704_9705_9706_9707.pdf; ComponentLink3Description: Package Specification; ComponentLink3URL: http://www.analog.com/static/imported-files/packages/414143737956480539664569CP_32_2.pdf; ComponentLink4Description: Product URL; ComponentLink4URL: http://www.analog.com/en/digital-to-analog-converters/da-converters/ad9707/products/product.html
footprint CP-32-2_N (QFN, 32-Leads, Body 5x5mm, Pitch 0.5mm, Thermal Pad 3.1x3.1mm, IPC Medium Density)
footprint CP-32-2_L (QFN, 32-Leads, Body 5x5mm, Pitch 0.5mm, Thermal Pad 3.1x3.1mm, IPC High Density)
footprint CP-32-2_M (QFN, 32-Leads, Body 5x5mm, Pitch 0.5mm, Thermal Pad 3.1x3.1mm, IPC Low Density)
pins: 1 DB7 (in) "Data Bit 7", 2 DB6 (in) "Data Bit 6", 3 DVDD (power) "Digital Supply Voltage (1.7 V to 3.6 V).", 4 DB5 (in) "Data Bit 5", 5 DB4 (in) "Data Bit 4", 6 DB3 (in) "Data Bit 3", 7 DB2 (in) "Data Bit 2", 8 DB1 (in) "Data Bit 1", 9 DB0 (LSB) (in) "Least Significant Data Bit (LSB).", 10 DCOM (power) "Digital Common.", 11 CLKVDD (power) "Clock Supply Voltage (1.7 V to 3.6 V).", 12 CLK+ (in) "Positive Differential Clock Input.", 13 CLK- (in) "Negative Differential Clock Input.", 14 CLKCOM (power) "Clock Common.", 15 CMODE/SCLK (in) "In pin mode, this pin selects the clock input type. Connect to CLKCOM for single-ended clock receiver (drive CLK+ and float CLK-). Connect to CLKVDD for differential receiver. In SPI mode, this pin is the serial data clock (See Datasheet)", 16 MODE/SDIO (io) "In pin mode, this pin selects the input data format. Connect to DCOM for straight binary, and DVDD for twos complement. In SPI mode, this pin acts as SPI data input/output.", 17 PIN/SPI/RESET (in) "Selects SPI Mode or Pin Mode Operation. Active high for pin mode operation and active low for SPI mode operation. Pulse high to reset SPI registers to default values.", 18 AVDD (power) "Analog Supply Voltage (1.7 V to 3.6 V).", 19 OTCM (in) "Adjustable Output Common Mode. Refer to the Theory of Operation section for details.", 20 IOUTB (out) "Complementary DAC Current Output. Full-scale current is sourced when all data bits are 0s.", 21 IOUTA (out) "DAC Current Output. Full-scale current is sourced when all data bits are 1s.", 22 ACOM (power) "Analog Common.", 23 REFIO (io) "Reference Input/Output. Serves as reference input when internal reference disabled. Serves as 1.0 V reference output when internal reference is activated. Requires a 0.1 uF capacitor to ACOM when internal reference is (See Datasheet)", 24 FSADJ (in) "Full-Scale Current Output Adjust.", 25 SLEEP/CSB (in) "In pin mode, active high powers down chip. In SPI mode, this pin is the serial port chip select (active low).", 26 DCOM (power) "Digital Common.", 27 DB13 (MSB) (in) "Most Significant Data Bit (MSB).", 28 DB12 (in) "Data Bit 12", 29 DB11 (in) "Data Bit 11", 30 DB10 (in) "Data Bit 10", 31 DB9 (in) "Data Bit 9", 32 DB8 (in) "Data Bit 8", 33 EP (power) "It is recommended that the exposed pad be thermally connected to a copper ground plane for enhanced electrical and thermal performance."

## AD9707BCPZRL7
designator U?
Single 14-Bit TxDAC, -40 to +85 degC, CP-32-2, Pb-Free, Reel; Generic Part Number: AD9707; Manufacturer: Analog Devices; PartNumber: AD9707BCPZRL7; # DAC Outputs: 1; Max V+: 3.6V; Op Pwr Diss: 57mW; Resolution (Bits): 14; Settling Time: 11ns; Single Supply: Yes; DatasheetVersion: Rev.B; PackageVersion: Jan-2005; PackageReference: CP-32-2; PackageDescription: 32-Lead Lead Frame Chip Scale Package [LFCSP_VQ] 5 x 5 mm Body, Very Thin Quad; Supplier 1: Digi-Key; Supplier Part Number 1: AD9707BCPZRL7-ND; Supplier 2: Newark; Supplier Part Number 2: 28M4200; Supplier 3: Mouser; Supplier Part Number 3: 584-AD9707BCPZR7; Packing: Reel; RoHS: Y; Mounting Technology: Surface Mount; Code_JEDEC: MO-220-VHHD-2; ComponentLink1Description: Manufacturer URL; ComponentLink1URL: http://www.analog.com/en/index.html; ComponentLink2Description: Datasheet; ComponentLink2URL: http://www.analog.com/static/imported-files/data_sheets/AD9704_9705_9706_9707.pdf; ComponentLink3Description: Package Specification; ComponentLink3URL: http://www.analog.com/static/imported-files/packages/414143737956480539664569CP_32_2.pdf; ComponentLink4Description: Product URL; ComponentLink4URL: http://www.analog.com/en/digital-to-analog-converters/da-converters/ad9707/products/product.html
footprint CP-32-2_N (QFN, 32-Leads, Body 5x5mm, Pitch 0.5mm, Thermal Pad 3.1x3.1mm, IPC Medium Density)
footprint CP-32-2_L (QFN, 32-Leads, Body 5x5mm, Pitch 0.5mm, Thermal Pad 3.1x3.1mm, IPC High Density)
footprint CP-32-2_M (QFN, 32-Leads, Body 5x5mm, Pitch 0.5mm, Thermal Pad 3.1x3.1mm, IPC Low Density)
pins: 1 DB7 (in) "Data Bit 7", 2 DB6 (in) "Data Bit 6", 3 DVDD (power) "Digital Supply Voltage (1.7 V to 3.6 V).", 4 DB5 (in) "Data Bit 5", 5 DB4 (in) "Data Bit 4", 6 DB3 (in) "Data Bit 3", 7 DB2 (in) "Data Bit 2", 8 DB1 (in) "Data Bit 1", 9 DB0 (LSB) (in) "Least Significant Data Bit (LSB).", 10 DCOM (power) "Digital Common.", 11 CLKVDD (power) "Clock Supply Voltage (1.7 V to 3.6 V).", 12 CLK+ (in) "Positive Differential Clock Input.", 13 CLK- (in) "Negative Differential Clock Input.", 14 CLKCOM (power) "Clock Common.", 15 CMODE/SCLK (in) "In pin mode, this pin selects the clock input type. Connect to CLKCOM for single-ended clock receiver (drive CLK+ and float CLK-). Connect to CLKVDD for differential receiver. In SPI mode, this pin is the serial data clock (See Datasheet)", 16 MODE/SDIO (io) "In pin mode, this pin selects the input data format. Connect to DCOM for straight binary, and DVDD for twos complement. In SPI mode, this pin acts as SPI data input/output.", 17 PIN/SPI/RESET (in) "Selects SPI Mode or Pin Mode Operation. Active high for pin mode operation and active low for SPI mode operation. Pulse high to reset SPI registers to default values.", 18 AVDD (power) "Analog Supply Voltage (1.7 V to 3.6 V).", 19 OTCM (in) "Adjustable Output Common Mode. Refer to the Theory of Operation section for details.", 20 IOUTB (out) "Complementary DAC Current Output. Full-scale current is sourced when all data bits are 0s.", 21 IOUTA (out) "DAC Current Output. Full-scale current is sourced when all data bits are 1s.", 22 ACOM (power) "Analog Common.", 23 REFIO (io) "Reference Input/Output. Serves as reference input when internal reference disabled. Serves as 1.0 V reference output when internal reference is activated. Requires a 0.1 uF capacitor to ACOM when internal reference is (See Datasheet)", 24 FSADJ (in) "Full-Scale Current Output Adjust.", 25 SLEEP/CSB (in) "In pin mode, active high powers down chip. In SPI mode, this pin is the serial port chip select (active low).", 26 DCOM (power) "Digital Common.", 27 DB13 (MSB) (in) "Most Significant Data Bit (MSB).", 28 DB12 (in) "Data Bit 12", 29 DB11 (in) "Data Bit 11", 30 DB10 (in) "Data Bit 10", 31 DB9 (in) "Data Bit 9", 32 DB8 (in) "Data Bit 8", 33 EP (power) "It is recommended that the exposed pad be thermally connected to a copper ground plane for enhanced electrical and thermal performance."

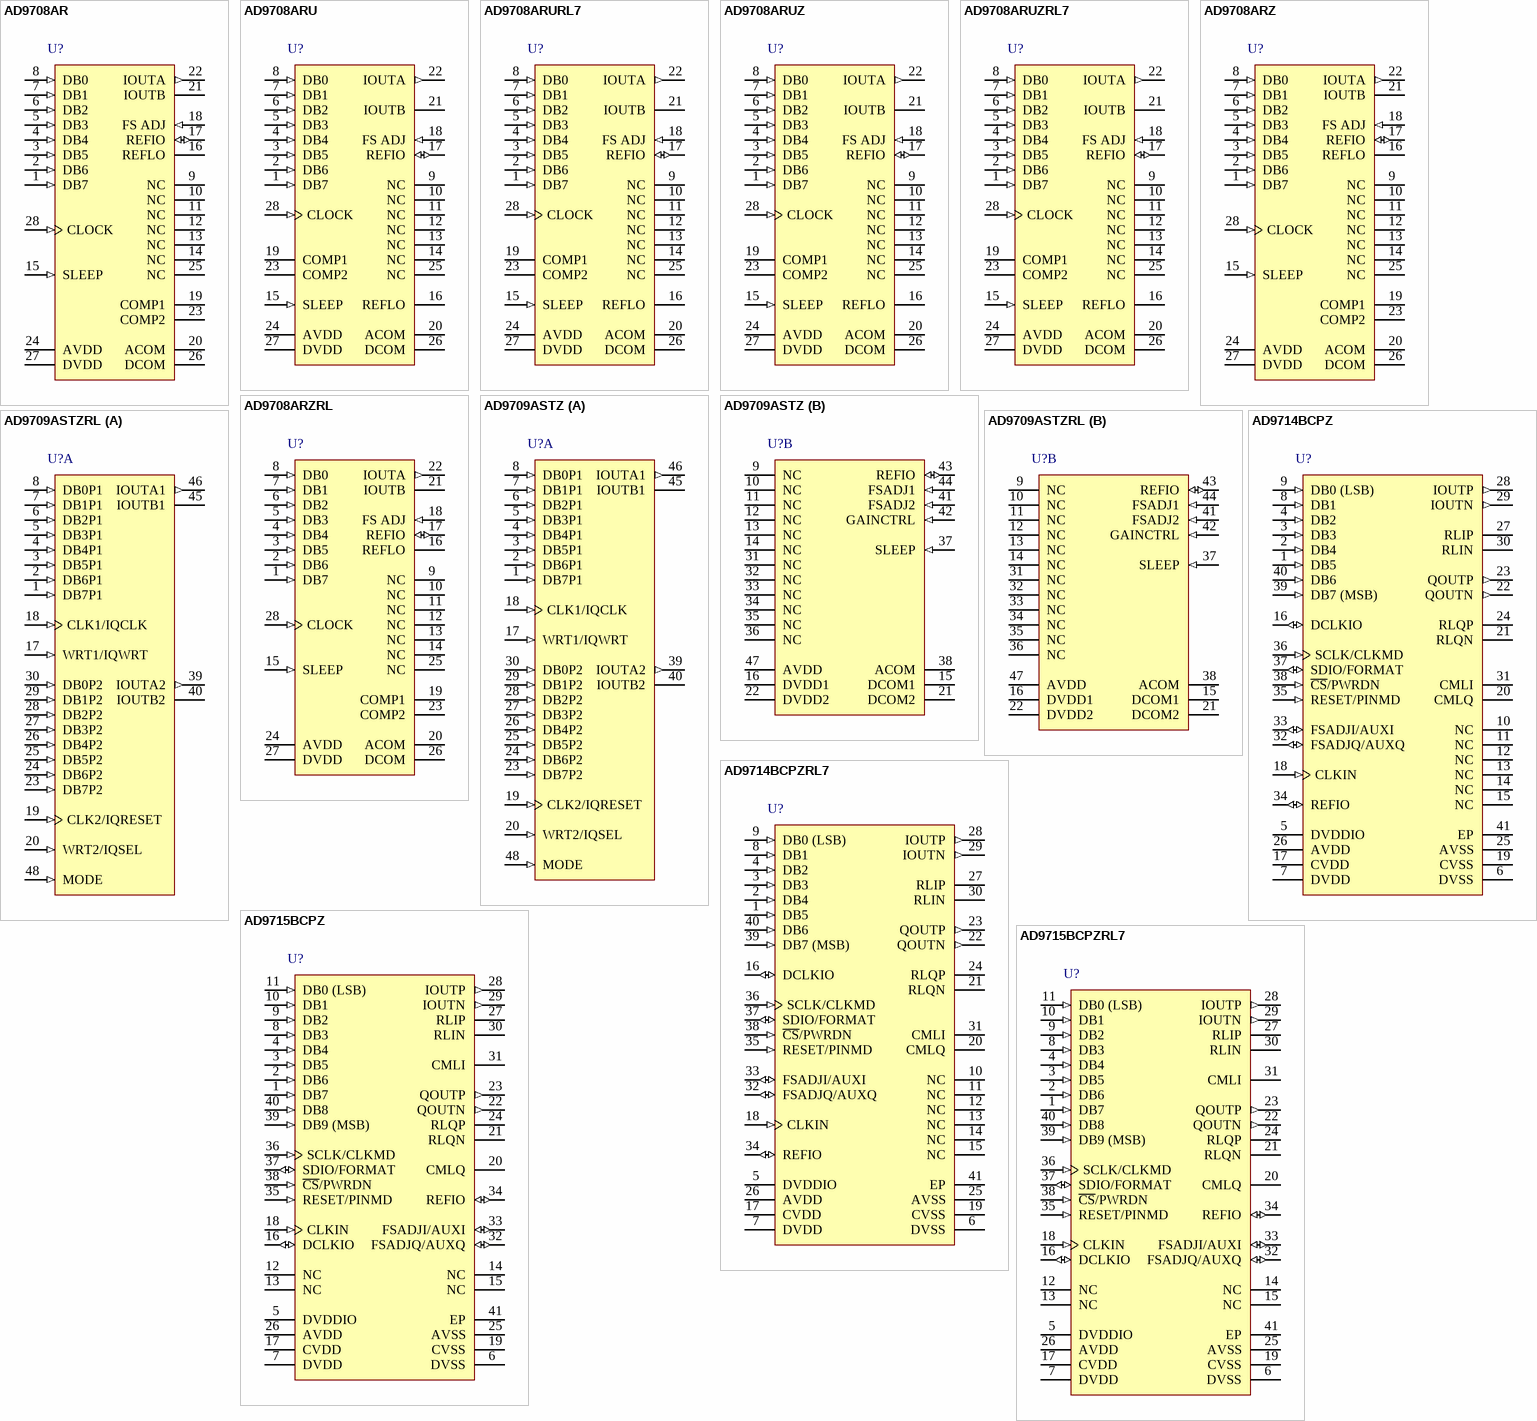
[diagram p87: symbols AD9708AR to AD9715BCPZRL7]

## AD9708AR
designator U?
Single 8-Bit TxDAC, 100 Msps, -40 to +85 degC, RW-28, Tube; Generic Part Number: AD9708; Manufacturer: Analog Devices; PartNumber: AD9708AR; # DAC Outputs: 1; Max V+: 5.5V; Op Pwr Diss: 175mW; Resolution (Bits): 8; Settling Time: 35ns; Single Supply: Yes; DatasheetVersion: Rev.B; PackageVersion: 060706-A; PackageReference: RW-28; PackageDescription: 28-Lead Standard Small Outline Package [SOIC_W]; Supplier 1: Digi-Key; Supplier Part Number 1: AD9708AR-ND; Supplier 2: Mouser; Supplier Part Number 2: 584-AD9708AR; Packing: Tube; RoHS: N; Mounting Technology: Surface Mount; Code_JEDEC: MS-013-AE; ComponentLink1Description: Manufacturer URL; ComponentLink1URL: http://www.analog.com/en/index.html; ComponentLink2Description: Datasheet; ComponentLink2URL: http://www.analog.com/static/imported-files/data_sheets/AD9708.pdf; ComponentLink3Description: Product URL; ComponentLink3URL: http://www.analog.com/en/digital-to-analog-converters/da-converters/ad9708/products/product.html
footprint RW-28_N (SOIC, 28-Leads, Body 17.9x7.5mm, Pitch 1.27mm, IPC Medium Density)
footprint RW-28_L (SOIC, 28-Leads, Body 17.9x7.5mm, Pitch 1.27mm, IPC High Density)
footprint RW-28_M (SOIC, 28-Leads, Body 17.9x7.5mm, Pitch 1.27mm, IPC Low Density)
pins: 1 DB7 (in) "Most Significant Data Bit (MSB).", 2 DB6 (in) "Data Bit 6.", 3 DB5 (in) "Data Bit 5.", 4 DB4 (in) "Data Bit 4.", 5 DB3 (in) "Data Bit 3.", 6 DB2 (in) "Data Bit 2.", 7 DB1 (in) "Data Bit 1.", 8 DB0 (in) "Least Significant Data Bit (LSB).", 9 NC "No Internal Connection.", 10 NC "No Internal Connection.", 11 NC "No Internal Connection.", 12 NC "No Internal Connection.", 13 NC "No Internal Connection.", 14 NC "No Internal Connection.", 15 SLEEP (in) "Power-Down Control Input.  Active High.  Contains active pull-down circuit, thus may be left unterminated if not used.", 16 REFLO "Reference Ground when Internal 1.2 V Reference Used.  Connect to AVDD to disable internal reference.", 17 REFIO (io) "Reference Input/Output.  Serves as reference input when internal reference disabled (i.e., Tie REFLO to AVDD). Serves as 1.2 V reference output when internal reference activated (i.e., Tie REFLO to ACOM).  Requires 0.1 uF (See Datasheet)", 18 FS ADJ (in) "Full-Scale Current Output Adjust.", 19 COMP1 "Bandwidth/Noise Reduction Node. Add 0.1 uF to AVDD for optimum performance.", 20 ACOM (power) "Analog Common.", 21 IOUTB "Complementary DAC Current Output. Full-scale current when all data bits are 0s.", 22 IOUTA (out) "DAC Current Output. Full-scale current when all data bits are 1s.", 23 COMP2 "Internal Bias Node for Switch Driver Circuitry.  Decouple to ACOM with 0.1 uF capacitor.", 24 AVDD (power) "Analog Supply Voltage (+2.7 V to +5.5 V).", 25 NC "No Internal Connection.", 26 DCOM (power) "Digital Common.", 27 DVDD (power) "Digital Supply Voltage (+2.7 V to +5.5 V).", 28 CLOCK (in) "Clock Input.  Data latched on positive edge of clock."